# Altium integrated library Клемники.IntLib: 2 symbols
Pins are listed as number, name and electrical type; pins without a type are passive.

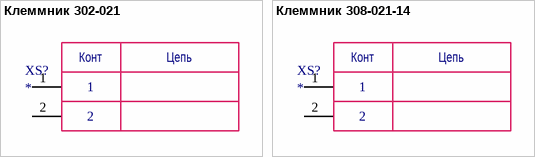
[diagram p0: symbols Клеммник 302-021 to Клеммник 308-021-14]

## Клеммник 302-021
designator XS?
302-021-xx
footprint 301-012
pins: 1, 2
text: Конт; Цепь

## Клеммник 308-021-14
designator XS?
308-021-14_2.54
footprint 308-021-14_2.54
pins: 1, 2
text: Конт; Цепь